# Altium schematic symbol library Flex PCB.SCHLIB: 32 symbols (part 1 of 2)
Pins are listed as number, name and electrical type; pins without a type are passive.

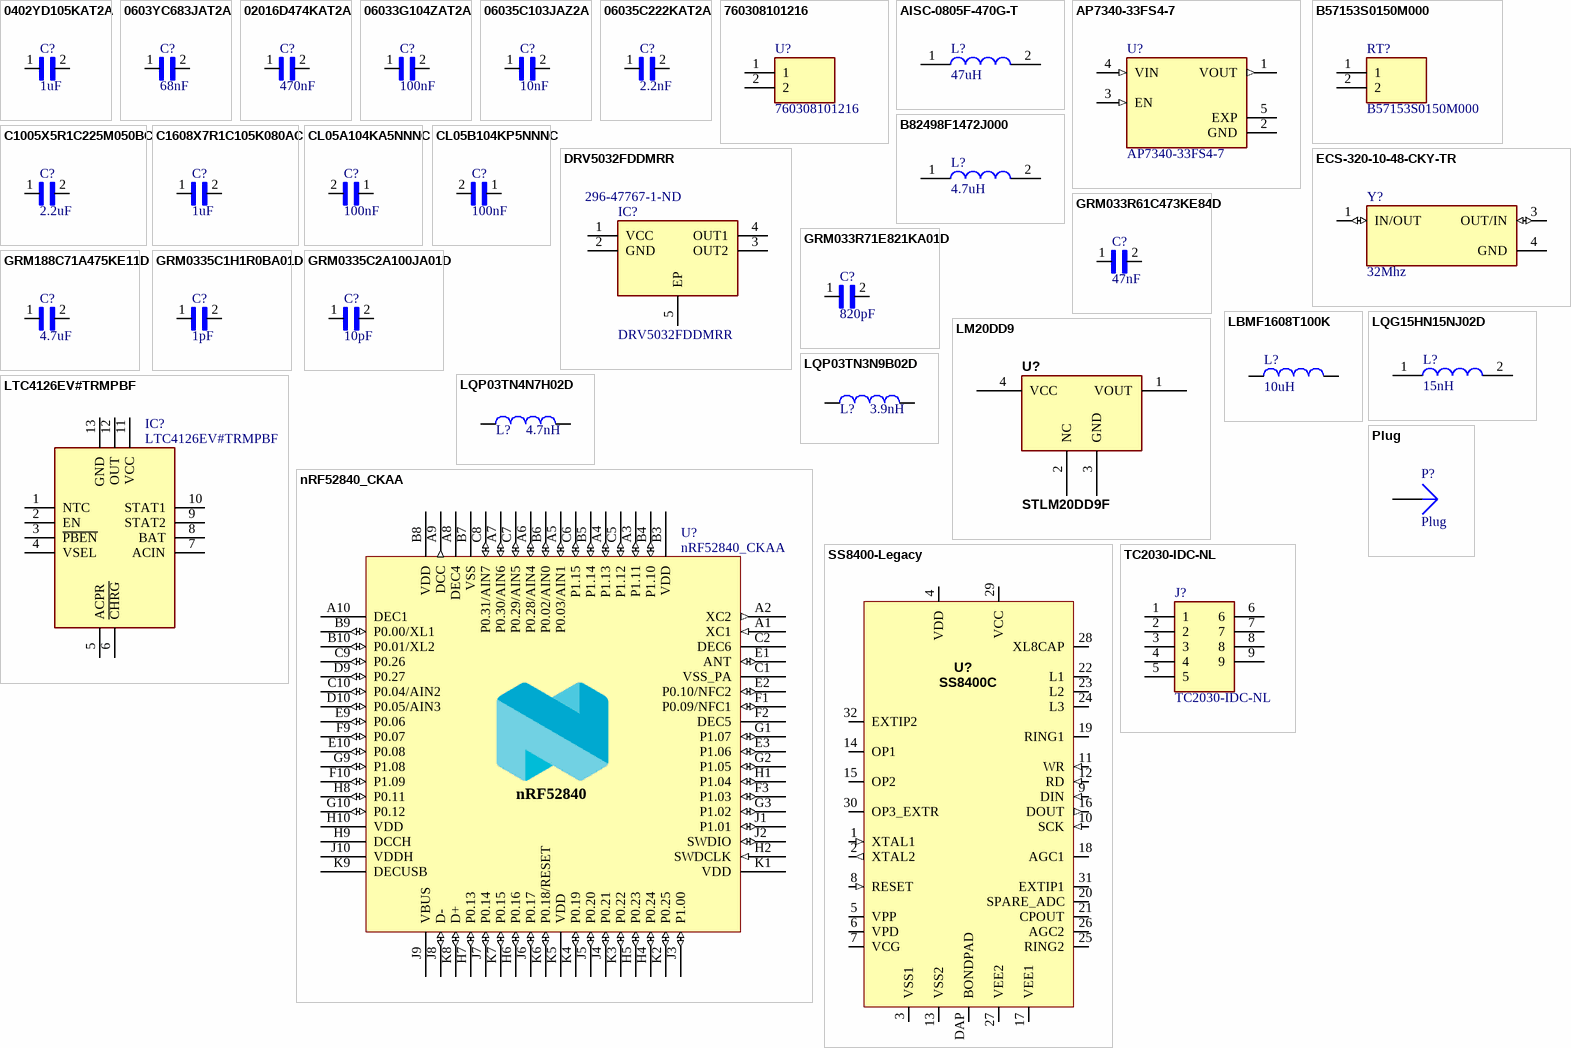
[diagram p0: symbols 0402YD105KAT2A to TC2030-IDC-NL]

## 0402YD105KAT2A
designator C?, comment 1uF
0402 1 uF 16 V ±10 % Tolerance X5R Surface Mount Multilayer Ceramic Capacitor; Manufacturer: Kyocera AVX; Manufacturer Part Number: 0402YD105KAT2A; Tolerance: 10%; Voltage Rating: 16V; Supplier 1: Digi-Key; RoHS: Yes; Category: Ceramic Capacitors; Stock 1: 27570; Pricing 1: 1=0.39000, 10=0.26500, 50=0.17660, 100=0.15010, 500=0.10598, 1000=0.09274, 2500=0.08832, 5000=0.08170 (USD); Mount: Surface Mount; Case/Package: 0402; Number of Pins: 2; Case Code (Metric): 1005; Case Code (Imperial): 0402; Weight: 2.3E-05oz; Contact Plating: Tin; Min Operating Temperature: -55°C; Max Operating Temperature: 85°C; Capacitance: 1uF; Packaging: Tape and Reel; Package Quantity: 10000; Voltage Rating (DC): 16V; Dielectric: X5R; Termination: SMD/SMT; Construction: Flat; Length: 0.039inch; Width: 0.02inch; Thickness: 0.022inch; Depth: 0.5mm; REACH SVHC: No SVHC; Lead Free: Lead Free; RoHS Compliant: Yes; ComponentLink1URL: https://datasheet.ciiva.com/1126/1598274-1126025.pdf?src-supplier=Farnell; ComponentLink1Description: https://datasheet.ciiva.com/1126/1598274-1126025.pdf?src-supplier=Farnell; ComponentLink2URL: https://datasheet.ciiva.com/1124/1598274-1124011.pdf?src-supplier=Element14; ComponentLink2Description: https://datasheet.ciiva.com/1124/1598274-1124011.pdf?src-supplier=Element14; ComponentLink3URL: https://datasheet.ciiva.com/6269/cx5r-6269291.pdf?src-supplier=Digi-Key; ComponentLink3Description: https://datasheet.ciiva.com/6269/cx5r-6269291.pdf?src-supplier=Digi-Key
footprint CAPC1005X56N
pins: 1, 2

## 0603YC683JAT2A
designator C?, comment 68nF
0603 68 nF 16 V ±5 % Tolerance X7R Surface Mount Multilayer Ceramic Capacitor; Manufacturer: Kyocera AVX; Manufacturer Part Number: 0603YC683JAT2A; Tolerance: 5%; Voltage Rating (DC): 16V; Supplier 1: Newark; RoHS: Yes; Category: Ceramic Capacitors; Mount: Surface Mount; Case/Package: 0603; Number of Pins: 2; Contact Plating: Tin,Matte; Case Code (Metric): 1608; Case Code (Imperial): 0603; Min Operating Temperature: -55°C; Max Operating Temperature: 125°C; Capacitance: 68nF; Dielectric: X7R; Packaging: Tape and Reel; Package Quantity: 1; Termination: SMD/SMT; Series: -; Voltage Rating: 16V; Construction: Flat; Length: 1.6mm; Width: 0.032inch; Depth: 0.81mm; Thickness: 0.035inch; Radiation Hardening: No; Lead Free: Lead Free; REACH SVHC: Unknown; RoHS Compliant: Yes; ComponentLink1URL: https://datasheet.ciiva.com/11577/cx7r-11577158.pdf?src-supplier=Avnet; ComponentLink1Description: https://datasheet.ciiva.com/11577/cx7r-11577158.pdf?src-supplier=Avnet; ComponentLink2URL: https://datasheet.ciiva.com/16507/cx7r-16507206.pdf?src-supplier=Future+Electronics; ComponentLink2Description: https://datasheet.ciiva.com/16507/cx7r-16507206.pdf?src-supplier=Future+Electronics; ComponentLink3URL: https://datasheet.ciiva.com/152/cx7r-152731.pdf?src-supplier=Digi-Key; ComponentLink3Description: https://datasheet.ciiva.com/152/cx7r-152731.pdf?src-supplier=Digi-Key; ComponentLink4URL: https://datasheet.ciiva.com/14912/cx7r-14912559.pdf?src-supplier=Digi-Key; ComponentLink4Description: https://datasheet.ciiva.com/14912/cx7r-14912559.pdf?src-supplier=Digi-Key
footprint CAPC1608X90N
pins: 1, 2

## 02016D474KAT2A
designator C?, comment 470nF
Cap Ceramic 0.47uF 6.3V X5R 10% SMD 0201 85C Paper T/R; Manufacturer: Kyocera AVX; Manufacturer Part Number: 02016D474KAT2A; Supplier 1: Digi-Key; RoHS: Yes; Category: Ceramic Capacitors; Stock 1: 336619; Pricing 1: 1=0.10000, 10=0.05900, 50=0.03240, 100=0.02650, 500=0.01892, 1000=0.01486, 2500=0.01351, 5000=0.01243 (USD); Case/Package: 0201; Min Operating Temperature: -55°C; Max Operating Temperature: 85°C; Capacitance: 470nF; Package Quantity: 15000; Tolerance: 10%; Packaging: Tape and Reel; Voltage Rating (DC): 6.3V; Dielectric: X5R; Length: 0.6mm; Depth: 0.3mm; RoHS Compliant: Yes; ComponentLink1URL: https://datasheet.ciiva.com/13272/cx5r-33896-13272439.pdf?src-supplier=Mouser; ComponentLink1Description: https://datasheet.ciiva.com/13272/cx5r-33896-13272439.pdf?src-supplier=Mouser
footprint CAPC0603X33N
pins: 1, 2

## 06033G104ZAT2A
designator C?, comment 100nF
0603 100 nF 25 V -20 / +80 % Tolerance Y5V SMT Multilayer Ceramic Capacitor; Manufacturer: Kyocera AVX; Manufacturer Part Number: 06033G104ZAT2A; Tolerance: 80%; Voltage Rating (DC): 25V; Insulation Resistance: 100GR; Dissipation Factor: 7%; Supplier 1: Digi-Key; RoHS: Yes; Category: Ceramic Capacitors; Stock 1: 1016354; Pricing 1: 1=0.10000, 10=0.03000, 50=0.01660, 100=0.01350, 500=0.00966, 1000=0.00759 (USD); Mount: Surface Mount,PCB; Case/Package: 0603; Number of Pins: 2; Case Code (Imperial): 0603; Case Code (Metric): 1608; Contact Plating: Tin,Matte; Case Code: 0603; Min Operating Temperature: -30°C; Max Operating Temperature: 85°C; Capacitance: 100nF; Dielectric: Y5V; Packaging: Tape and Reel; Package Quantity: 1; Termination: SMD/SMT; Voltage Rating: 25V; Voltage: 25V; Series: -; Construction: Flat; Length: 1.6mm; Width: 0.032inch; Height: 0.9mm; Thickness: 0.035inch; Depth: 0.81mm; Radiation Hardening: No; REACH SVHC: No SVHC; Lead Free: Lead Free; RoHS Compliant: Yes; ComponentLink1URL: https://datasheet.ciiva.com/1124/318409-1124608.pdf?src-supplier=Element14; ComponentLink1Description: https://datasheet.ciiva.com/1124/318409-1124608.pdf?src-supplier=Element14; ComponentLink2URL: https://datasheet.ciiva.com/11786/0900766b802d4699-11786267.pdf?src-supplier=RSComponents; ComponentLink2Description: https://datasheet.ciiva.com/11786/0900766b802d4699-11786267.pdf?src-supplier=RSComponents; ComponentLink3URL: https://datasheet.ciiva.com/2987/cy5v-2987766.pdf?src-supplier=Avnet; ComponentLink3Description: https://datasheet.ciiva.com/2987/cy5v-2987766.pdf?src-supplier=Avnet; ComponentLink4URL: https://datasheet.ciiva.com/11464/cy5v-11464567.pdf?src-supplier=Avnet; ComponentLink4Description: https://datasheet.ciiva.com/11464/cy5v-11464567.pdf?src-supplier=Avnet; ComponentLink5URL: https://datasheet.ciiva.com/16484/cy5v-16484423.pdf?src-supplier=Avnet+Asia; ComponentLink5Description: https://datasheet.ciiva.com/16484/cy5v-16484423.pdf?src-supplier=Avnet+Asia; ComponentLink6URL: https://datasheet.ciiva.com/14590/70001073-14590664.pdf?src-supplier=Allied+Electronics; ComponentLink6Description: https://datasheet.ciiva.com/14590/70001073-14590664.pdf?src-supplier=Allied+Electronics; ComponentLink7URL: https://datasheet.ciiva.com/203/cy5v-203689.pdf?src-supplier=Digi-Key; ComponentLink7Description: https://datasheet.ciiva.com/203/cy5v-203689.pdf?src-supplier=Digi-Key; ComponentLink8URL: https://datasheet.ciiva.com/203/cy5v-203690.pdf?src-supplier=Digi-Key; ComponentLink8Description: https://datasheet.ciiva.com/203/cy5v-203690.pdf?src-supplier=Digi-Key; ComponentLink9URL: https://datasheet.ciiva.com/203/cy5v-203691.pdf?src-supplier=Digi-Key; ComponentLink9Description: https://datasheet.ciiva.com/203/cy5v-203691.pdf?src-supplier=Digi-Key; ComponentLink10URL: https://datasheet.ciiva.com/28613/578190-28613276.pdf?src-supplier=Element14; ComponentLink10Description: https://datasheet.ciiva.com/28613/578190-28613276.pdf?src-supplier=Element14; ComponentLink11URL: https://datasheet.ciiva.com/1124/578190-1124654.pdf?src-supplier=Element14; ComponentLink11Description: https://datasheet.ciiva.com/1124/578190-1124654.pdf?src-supplier=Element14; ComponentLink12URL: https://datasheet.ciiva.com/1124/578190-1124655.pdf?src-supplier=Element14; ComponentLink12Description: https://datasheet.ciiva.com/1124/578190-1124655.pdf?src-supplier=Element14
footprint CAPC1608X90N
pins: 1, 2

## 06035C103JAZ2A
designator C?, comment 10nF
0603 10 nF 50V ±5 % Tolerance X7R Surface Mount Multilayer Ceramic Capacitor; Manufacturer: Kyocera AVX; Manufacturer Part Number: 06035C103JAZ2A; Tolerance: 5%; Dissipation Factor: 2.5%; Supplier 1: Digi-Key; RoHS: Yes; Category: Ceramic Capacitors; Stock 1: 97; Pricing 1: 1=0.14000, 10=0.10200, 50=0.05820, 100=0.04820, 500=0.03378, 1000=0.02797 (USD); Mount: Surface Mount; Case/Package: 0603; Number of Pins: 2; Case Code (Imperial): 0603; Case Code (Metric): 1608; Min Operating Temperature: -55°C; Max Operating Temperature: 125°C; Capacitance: 10nF; Dielectric: X7R; Packaging: Tape and Reel; Voltage Rating (DC): 50V; Package Quantity: 1; Voltage Rating: 50V; Termination: SMD/SMT; Features: Soft Termination; Series: FLEXITERM®; Construction: Flat; Length: 1.6mm; Width: 0.81mm; Height: 0.035mm; Depth: 0.81mm; Thickness: 0.035inch; Radiation Hardening: No; REACH SVHC: No SVHC; Lead Free: Lead Free; RoHS Compliant: Yes; ComponentLink1URL: https://datasheet.ciiva.com/17488/flexiterm-17488982.pdf?src-supplier=Avnet+Europe; ComponentLink1Description: https://datasheet.ciiva.com/17488/flexiterm-17488982.pdf?src-supplier=Avnet+Europe; ComponentLink2URL: https://datasheet.ciiva.com/162/flexiterm-162263.pdf?src-supplier=Digi-Key; ComponentLink2Description: https://datasheet.ciiva.com/162/flexiterm-162263.pdf?src-supplier=Digi-Key; ComponentLink3URL: https://datasheet.ciiva.com/162/flexiterm-162264.pdf?src-supplier=Digi-Key; ComponentLink3Description: https://datasheet.ciiva.com/162/flexiterm-162264.pdf?src-supplier=Digi-Key; ComponentLink4URL: https://datasheet.ciiva.com/162/flexiterm-162265.pdf?src-supplier=Digi-Key; ComponentLink4Description: https://datasheet.ciiva.com/162/flexiterm-162265.pdf?src-supplier=Digi-Key; ComponentLink5URL: https://datasheet.ciiva.com/1124/1679506-1124844.pdf?src-supplier=Element14; ComponentLink5Description: https://datasheet.ciiva.com/1124/1679506-1124844.pdf?src-supplier=Element14; ComponentLink6URL: https://datasheet.ciiva.com/1124/1679506-1124845.pdf?src-supplier=Element14; ComponentLink6Description: https://datasheet.ciiva.com/1124/1679506-1124845.pdf?src-supplier=Element14; ComponentLink7URL: https://datasheet.ciiva.com/11561/flexiterm-11561503.pdf?src-supplier=Avnet; ComponentLink7Description: https://datasheet.ciiva.com/11561/flexiterm-11561503.pdf?src-supplier=Avnet; ComponentLink8URL: https://datasheet.ciiva.com/16327/cx7r-16327071.pdf?src-supplier=Future+Electronics; ComponentLink8Description: https://datasheet.ciiva.com/16327/cx7r-16327071.pdf?src-supplier=Future+Electronics
footprint CAPC1608X90N
pins: 1, 2

## 06035C222KAT2A
designator C?, comment 2.2nF
0603 2.2 nF 50V ±10 % Tolerance X7R Surface Mount Multilayer Ceramic Capacitor; Manufacturer: Kyocera AVX; Manufacturer Part Number: 06035C222KAT2A; Tolerance: 10%; Voltage: 25V; Dissipation Factor: 2.5%; Supplier 1: Digi-Key; RoHS: Yes; Category: Ceramic Capacitors; Stock 1: 363118; Pricing 1: 1=0.10000, 10=0.06400, 50=0.03500, 100=0.02850, 500=0.02036, 1000=0.01600 (USD); Mount: Surface Mount; Case/Package: 0603; Number of Pins: 2; Case Code (Metric): 1608; Case Code (Imperial): 0603; Contact Plating: Tin,Matte; Dielectric Material: Ceramic; Min Operating Temperature: -55°C; Max Operating Temperature: 125°C; Capacitance: 2.2nF; Dielectric: X7R; Packaging: Tape and Reel; Voltage Rating (DC): 50V; Voltage Rating: 50V; Package Quantity: 1; Termination: SMD/SMT; Series: -; Construction: Flat; Length: 1.6mm; Width: 0.032inch; Height: 0.9mm; Depth: 0.81mm; Thickness: 0.035inch; Radiation Hardening: No; REACH SVHC: No SVHC; Lead Free: Lead Free; RoHS Compliant: Yes; ComponentLink1URL: https://datasheet.ciiva.com/11788/0900766b802d4698-11788065.pdf?src-supplier=RSComponents; ComponentLink1Description: https://datasheet.ciiva.com/11788/0900766b802d4698-11788065.pdf?src-supplier=RSComponents; ComponentLink2URL: https://datasheet.ciiva.com/2987/cx7r-2987841.pdf?src-supplier=Avnet; ComponentLink2Description: https://datasheet.ciiva.com/2987/cx7r-2987841.pdf?src-supplier=Avnet; ComponentLink3URL: https://datasheet.ciiva.com/28546/cx7r-28546597.pdf?src-supplier=Element14; ComponentLink3Description: https://datasheet.ciiva.com/28546/cx7r-28546597.pdf?src-supplier=Element14; ComponentLink4URL: https://datasheet.ciiva.com/160/cx7r-160968.pdf?src-supplier=Digi-Key; ComponentLink4Description: https://datasheet.ciiva.com/160/cx7r-160968.pdf?src-supplier=Digi-Key; ComponentLink5URL: https://datasheet.ciiva.com/160/cx7r-160969.pdf?src-supplier=Digi-Key; ComponentLink5Description: https://datasheet.ciiva.com/160/cx7r-160969.pdf?src-supplier=Digi-Key; ComponentLink6URL: https://datasheet.ciiva.com/160/cx7r-160970.pdf?src-supplier=Digi-Key; ComponentLink6Description: https://datasheet.ciiva.com/160/cx7r-160970.pdf?src-supplier=Digi-Key; ComponentLink7URL: https://datasheet.ciiva.com/1457/1679506-1457930.pdf?src-supplier=Element14; ComponentLink7Description: https://datasheet.ciiva.com/1457/1679506-1457930.pdf?src-supplier=Element14; ComponentLink8URL: https://datasheet.ciiva.com/1457/1679506-1457931.pdf?src-supplier=Element14; ComponentLink8Description: https://datasheet.ciiva.com/1457/1679506-1457931.pdf?src-supplier=Element14; ComponentLink9URL: https://datasheet.ciiva.com/5415/cx7r-218113-5415163.pdf?src-supplier=Mouser; ComponentLink9Description: https://datasheet.ciiva.com/5415/cx7r-218113-5415163.pdf?src-supplier=Mouser
footprint CAPC1608X90N
pins: 1, 2

## 760308101216
designator U?
Radial Wireless Charging Receiver Coil; Ferrite Core; 6mm; 500mA; 440mO; 10 Q; Manufacturer: Wurth Electronics; Inductance: 7.2uH; Saturation Current: 1A; DC Resistance (DCR): 440mR; Self Resonant Frequency: 32MHz; Tolerance: 10%; Supplier 1: Digi-Key; Manufacturer Part Number: 760308101216; RoHS: Yes; Stock 1: 445; Pricing 1: 1=8.54000, 10=8.14000, 60=7.51400, 120=6.83100 (USD); Min Operating Temperature: -20°C; Max Operating Temperature: 105°C; Logic Function: Receiver; Current Rating: 500mA; Inductance Tolerance: 10%; Height: 0.08inch; REACH SVHC: Unknown; RoHS Compliant: Yes; ComponentLink1URL: http://www.farnell.com/datasheets/2039991.pdf?src-supplier=Farnell; ComponentLink1Description: http://www.farnell.com/datasheets/2039991.pdf?src-supplier=Farnell; ComponentLink2URL: https://katalog.we-online.de/pbs/datasheet/760308101216.pdf?src-supplier=Digi-Key; ComponentLink2Description: https://katalog.we-online.de/pbs/datasheet/760308101216.pdf?src-supplier=Digi-Key; ComponentLink3URL: http://www.farnell.com/datasheets/2039991.pdf?src-supplier=Element14; ComponentLink3Description: http://www.farnell.com/datasheets/2039991.pdf?src-supplier=Element14
footprint 760308101216
pins: 1, 2

## AISC-0805F-470G-T
designator L?, comment 47uH
Inductor RF Wirewound 47uH 2% 2.5MHz 10Q-Factor Ferrite 0.055A 13.8Ohm DCR 0805 T/R; Manufacturer: Abracon; Manufacturer Part Number: AISC-0805F-470G-T; Self Resonant Frequency: 14MHz; DC Resistance (DCR): 13.8R; Current Rating: 55mA; Shielding: Unshielded; Max DC Current: 1A; Q Factor: 10; Supplier 1: Digi-Key; RoHS: Yes; Category: Fixed Inductors; Stock 1: 1780; Pricing 1: 1=0.29000, 10=0.25700, 25=0.22520, 50=0.19300, 100=0.17690, 250=0.16080, 500=0.15116, 1000=0.11578 (USD); Mount: Surface Mount; Case/Package: 0805; Case Code (Metric): 2012; Case Code (Imperial): 0805; Core Material: Ferrite; Min Operating Temperature: -40°C; Max Operating Temperature: 125°C; Packaging: Tape and Reel; Inductance: 47uH; Tolerance: 2%; Test Frequency: 2.5MHz; Termination: SMD/SMT; Series: AISC-0805F; Package Quantity: 2000; Length: 0.09inch; Width: 0.068inch; Height: 0.061inch; RoHS Compliant: Yes; ComponentLink1URL: https://datasheet.ciiva.com/1079/aisc-0805f-1079476.pdf?src-supplier=Digi-Key; ComponentLink1Description: https://datasheet.ciiva.com/1079/aisc-0805f-1079476.pdf?src-supplier=Digi-Key; ComponentLink2URL: https://datasheet.ciiva.com/1079/aisc-0805f-1079477.pdf?src-supplier=Digi-Key; ComponentLink2Description: https://datasheet.ciiva.com/1079/aisc-0805f-1079477.pdf?src-supplier=Digi-Key
footprint AISC0805F470GT
pins: 1, 2

## AP7340-33FS4-7
designator U?
AP7340 Series 3.3 V Fixed Output 150 mA SMT LDO Regulator - DFN1010-4; Manufacturer: Diodes; Output Current: 150mA; Number of Outputs: 1; Min Input Voltage: 1.7V; Max Input Voltage: 5.25V; Output Voltage: 3.3V; Max Power Dissipation: 400mW; Dropout Voltage: 210mV; Quiescent Current: 50uA; Polarity: Positive; Accuracy: 1%; Supplier 1: Digi-Key; Manufacturer Part Number: AP7340-33FS4-7; RoHS: Yes; Category: Voltage Regulators - Linear; Stock 1: 94687; Pricing 1: 1=0.39000, 10=0.31400, 25=0.28720, 100=0.21370, 250=0.19368, 500=0.16028, 1000=0.12020, 2500=0.11019 (USD); Mount: Surface Mount; Case/Package: DFN; Number of Pins: 4; Contact Plating: Gold; Min Operating Temperature: -40°C; Max Operating Temperature: 85°C; Packaging: Tape and Reel; Max Output Current: 150mA; Package Quantity: 5000; Number of Regulators: 1; Power Rating: 400mW; Output Type: Fixed; Length: 1.05mm; Width: 1.05mm; Height: 0.35mm; Lead Free: Lead Free; RoHS Compliant: Yes; ComponentLink1URL: https://datasheet.ciiva.com/29568/ap7340-29568831.pdf?src-supplier=Digi-Key; ComponentLink1Description: https://datasheet.ciiva.com/29568/ap7340-29568831.pdf?src-supplier=Digi-Key; ComponentLink2URL: https://datasheet.ciiva.com/30016/ap7340-30016698.pdf?src-supplier=Avnet; ComponentLink2Description: https://datasheet.ciiva.com/30016/ap7340-30016698.pdf?src-supplier=Avnet
footprint VREG_AP7340-33FS4-7
pins: 1 VOUT (out), 2 GND (power), 3 EN (in), 4 VIN (in), 5 EXP

## B57153S0150M000
designator RT?  (graphical)
Inrush current limiters include PTC and NTC Thermistors.; Manufacturer: TDK EPCOS; Current Rating: 1.8A; Tolerance: 20%; Operating Supply Voltage: 265V; Lead Length: 25mm; Approvals: UL; Supplier 1: Digi-Key; Manufacturer Part Number: B57153S0150M000; RoHS: Yes; Category: Thermistors; Stock 1: 1322; Pricing 1: 1=0.57000, 5=0.55000, 10=0.53200, 50=0.44780, 100=0.37180, 250=0.33800, 500=0.28730, 1000=0.25350, 5000=0.22815 (USD); Case/Package: Radial; Number of Pins: 2; Min Operating Temperature: -55°C; Max Operating Temperature: 170°C; Packaging: Bulk; Diameter: 8.5mm; Depth: 6mm; Thickness: 6mm; Radiation Hardening: No; RoHS Compliant: Yes; REACH SVHC: No SVHC; Lead Free: Lead Free; ComponentLink1URL: https://datasheet.ciiva.com/15097/getdatasheetpartid-382123-15097837.pdf?src-supplier=Verical; ComponentLink1Description: https://datasheet.ciiva.com/15097/getdatasheetpartid-382123-15097837.pdf?src-supplier=Verical; ComponentLink2URL: https://datasheet.ciiva.com/29386/419724-da-01-en-ntc-sensor-b57153s0150m000-29386961.pdf?src-supplier=Conrad; ComponentLink2Description: https://datasheet.ciiva.com/29386/419724-da-01-en-ntc-sensor-b57153s0150m000-29386961.pdf?src-supplier=Conrad
pins: 1, 2

## B82498F1472J000
designator L?, comment 4.7uH
FIXED IND 4.7UH 90MA 3.8 OHM SMD; Manufacturer: TDK EPCOS; Manufacturer Part Number: B82498F1472J000; Core Material: Ferrite,Ceramic; Inductance Tolerance: 5%; Q Factor: 20; Self Resonant Frequency: 210MHz; DC Resistance (DCR): 3.8R; Test Frequency: 7.96MHz; Inductor Type: HIGH FREQUENCY; Supplier 1: RSComponents; RoHS: Yes; Category: Fixed Inductors; Stock 1: 1; Pricing 1: 10=0.93100, 50=0.79000, 100=0.69900, 250=0.60400, 500=0.55800 (USD); Mount: Surface Mount; Case/Package: 0805; Number of Pins: 2; Case Code (Metric): 2012; Case Code (Imperial): 0805; Contact Plating: Silver; Tolerance: 5%; Packaging: Tape and Reel; Current Rating: 90mA; Inductance: 4.7uH; Max DC Current: 90mA; DC Current: 90mA; Series: SIMID; Series Resistance: 3.8R; Length: 2.3mm; Depth: 1.7mm; REACH SVHC: No SVHC; Military Standard: Not; RoHS Compliant: Yes; ComponentLink1URL: https://datasheet.ciiva.com/6007/78409-6007765.pdf?src-supplier=Farnell; ComponentLink1Description: https://datasheet.ciiva.com/6007/78409-6007765.pdf?src-supplier=Farnell; ComponentLink2URL: https://datasheet.ciiva.com/14124/pjb82498f-data-en-14124805.pdf?src-supplier=Distrelec; ComponentLink2Description: https://datasheet.ciiva.com/14124/pjb82498f-data-en-14124805.pdf?src-supplier=Distrelec
footprint B82498F
pins: 1, 2

## C1005X5R1C225M050BC
designator C?, comment 2.2uF
Cap Ceramic 2.2uF 16V X5R 20% SMD 0402 85C Paper T/R; Manufacturer: TDK; Manufacturer Part Number: C1005X5R1C225M050BC; Supplier 1: Digi-Key; RoHS: Yes; Category: Ceramic Capacitors; Stock 1: 5540; Pricing 1: 1=0.35000, 10=0.24200, 50=0.16100, 100=0.13680, 500=0.09660, 1000=0.08452, 2500=0.08050, 5000=0.07446 (USD); Mount: Surface Mount; Case/Package: 0402; Case Code (Metric): 1005; Case Code (Imperial): 0402; Weight: 2.3E-05oz; Dielectric Material: Ceramic; Min Operating Temperature: -55°C; Max Operating Temperature: 85°C; Tolerance: 20%; Packaging: Tape and Reel; Capacitance: 2.2uF; Voltage Rating: 16V; Termination: SMD/SMT; Package Quantity: 1; Voltage Rating (DC): 16V; Dielectric: X5R; Resistor Type: Ceramic; Series: C; Length: 1mm; Width: 0.02inch; Height: 0.5mm; Thickness: 0.022inch; Depth: 0.5mm; REACH SVHC: No SVHC; Lead Free: Lead Free; RoHS Compliant: Yes; ComponentLink1URL: https://datasheet.ciiva.com/24217/c1005x5r1c225m050bc-264319-24217866.pdf?src-supplier=Mouser; ComponentLink1Description: https://datasheet.ciiva.com/24217/c1005x5r1c225m050bc-264319-24217866.pdf?src-supplier=Mouser; ComponentLink2URL: https://datasheet.ciiva.com/6290/tdkmlcccaprange-6290133.pdf?src-supplier=Digi-Key; ComponentLink2Description: https://datasheet.ciiva.com/6290/tdkmlcccaprange-6290133.pdf?src-supplier=Digi-Key; ComponentLink3URL: https://datasheet.ciiva.com/6290/tdkmlcccaprange-6290135.pdf?src-supplier=Digi-Key; ComponentLink3Description: https://datasheet.ciiva.com/6290/tdkmlcccaprange-6290135.pdf?src-supplier=Digi-Key
footprint CAPC1005X55N
pins: 1, 2

## C1608X7R1C105K080AC
designator C?, comment 1uF
TDK - C1608X7R1C105K080AC - SMD Multilayer Ceramic Capacitor, 1 µF, 16 V, 0603 [1608 Metric], ± 10%, X7R, C Series TDK; Voltage Rating: 16V; Supplier 1: Digi-Key; Manufacturer: TDK; Manufacturer Part Number: C1608X7R1C105K080AC; RoHS: Yes; Category: Ceramic Capacitors; Stock 1: 2663219; Pricing 1: 1=0.13000, 10=0.09600, 50=0.05440, 100=0.04500, 500=0.03156, 1000=0.02613 (USD); Mount: Surface Mount; Case/Package: 0603; Case Code (Metric): 1608; Case Code (Imperial): 0603; Weight: 7.1E-05oz; Dielectric Material: Ceramic; Min Operating Temperature: -55°C; Max Operating Temperature: 125°C; Capacitance: 1uF; Tolerance: 10%; Dielectric: X7R; Packaging: Tape and Reel; Package Quantity: 1; Voltage Rating (DC): 16V; Termination: SMD/SMT; Resistor Type: Ceramic; Voltage: 16V; Series: C; Construction: Flat; Length: 1.6mm; Width: 0.031inch; Height: 0.8mm; Thickness: 0.037inch; Depth: 0.8mm; Radiation Hardening: No; REACH SVHC: No SVHC; Lead Free: Lead Free; RoHS Compliant: Yes; ComponentLink1URL: https://datasheet.ciiva.com/11788/0900766b80c1bb00-11788075.pdf?src-supplier=RSComponents; ComponentLink1Description: https://datasheet.ciiva.com/11788/0900766b80c1bb00-11788075.pdf?src-supplier=RSComponents; ComponentLink2URL: https://datasheet.ciiva.com/22648/1796654-22648704.pdf?src-supplier=Element14; ComponentLink2Description: https://datasheet.ciiva.com/22648/1796654-22648704.pdf?src-supplier=Element14; ComponentLink3URL: https://datasheet.ciiva.com/26285/3025c1608x7r1c105k080ac-26285242.pdf?src-supplier=Onlinecomponents.com; ComponentLink3Description: https://datasheet.ciiva.com/26285/3025c1608x7r1c105k080ac-26285242.pdf?src-supplier=Onlinecomponents.com; ComponentLink4URL: https://datasheet.ciiva.com/15192/getdatasheetpartid-715881-15192029.pdf?src-supplier=Verical; ComponentLink4Description: https://datasheet.ciiva.com/15192/getdatasheetpartid-715881-15192029.pdf?src-supplier=Verical; ComponentLink5URL: https://datasheet.ciiva.com/17487/e412-c-17487343.pdf?src-supplier=Avnet+Europe; ComponentLink5Description: https://datasheet.ciiva.com/17487/e412-c-17487343.pdf?src-supplier=Avnet+Europe; ComponentLink6URL: https://datasheet.ciiva.com/22694/1796654-22694127.pdf?src-supplier=Element14; ComponentLink6Description: https://datasheet.ciiva.com/22694/1796654-22694127.pdf?src-supplier=Element14; ComponentLink7URL: https://datasheet.ciiva.com/6250/tdkmlcccaprange-6250871.pdf?src-supplier=Digi-Key; ComponentLink7Description: https://datasheet.ciiva.com/6250/tdkmlcccaprange-6250871.pdf?src-supplier=Digi-Key; ComponentLink8URL: https://datasheet.ciiva.com/16199/e412-c-16199815.pdf?src-supplier=Future+Electronics; ComponentLink8Description: https://datasheet.ciiva.com/16199/e412-c-16199815.pdf?src-supplier=Future+Electronics; ComponentLink9URL: https://datasheet.ciiva.com/6156/1571323-6156168.pdf?src-supplier=Farnell; ComponentLink9Description: https://datasheet.ciiva.com/6156/1571323-6156168.pdf?src-supplier=Farnell; ComponentLink10URL: https://datasheet.ciiva.com/48671/e412-c-48671305.pdf?src-supplier=Avnet; ComponentLink10Description: https://datasheet.ciiva.com/48671/e412-c-48671305.pdf?src-supplier=Avnet; ComponentLink11URL: https://datasheet.ciiva.com/22749/1744655-22749595.pdf?src-supplier=Element14; ComponentLink11Description: https://datasheet.ciiva.com/22749/1744655-22749595.pdf?src-supplier=Element14
footprint CAPC1608X90N
pins: 1, 2

## CL05A104KA5NNNC
designator C?, comment 100nF
Cap Ceramic 0.1uF 25V X5R 10% Pad SMD 0402 85¡ãC T/R / Multi Layer Ceramic Capacitor (MLCC); Manufacturer: Samsung; Manufacturer Part Number: CL05A104KA5NNNC; Supplier 1: Digi-Key; RoHS: Yes; Category: Ceramic Capacitors; Stock 1: 6603507; Pricing 1: 1=0.10000, 10=0.01100, 50=0.00620, 100=0.00510, 500=0.00362, 1000=0.00285, 2500=0.00259, 5000=0.00238 (USD); Mount: Surface Mount; Case/Package: 0402; Case Code (Imperial): 0402; Case Code (Metric): 1005; Min Operating Temperature: -55°C; Max Operating Temperature: 85°C; Capacitance: 100nF; Tolerance: 10%; Dielectric: X5R; Packaging: Tape and Reel; Package Quantity: 1; Voltage Rating: 25V; Voltage: 25V; Voltage Rating (DC): 25V; Length: 1mm; Width: 0.02inch; Height: 0.5mm; Thickness: 0.022inch; Depth: 0.5mm; Radiation Hardening: No; Lead Free: Lead Free; ComponentLink1URL: https://datasheet.ciiva.com/25802/cl05a104ka5nnnc-25802704.pdf?src-supplier=Digi-Key; ComponentLink1Description: https://datasheet.ciiva.com/25802/cl05a104ka5nnnc-25802704.pdf?src-supplier=Digi-Key; ComponentLink2URL: https://datasheet.ciiva.com/16437/cl05a104ka5nnnc-16437369.pdf?src-supplier=Future+Electronics; ComponentLink2Description: https://datasheet.ciiva.com/16437/cl05a104ka5nnnc-16437369.pdf?src-supplier=Future+Electronics; ComponentLink3URL: https://datasheet.ciiva.com/26838/getdatasheetpartid-357412-26838142.pdf?src-supplier=Verical; ComponentLink3Description: https://datasheet.ciiva.com/26838/getdatasheetpartid-357412-26838142.pdf?src-supplier=Verical; ComponentLink4URL: https://datasheet.ciiva.com/26309/mlcc-catalogdownload2013-eng-26309014.pdf?src-supplier=Distrelec; ComponentLink4Description: https://datasheet.ciiva.com/26309/mlcc-catalogdownload2013-eng-26309014.pdf?src-supplier=Distrelec
footprint CAPC1005X55N
pins: 1, 2

## CL05B104KP5NNNC
designator C?, comment 100nF
Cap Ceramic 0.1uF 10V X7R 10% Pad SMD 0402 125C T/R; Manufacturer: Samsung; Manufacturer Part Number: CL05B104KP5NNNC; Supplier 1: Digi-Key; RoHS: Yes; Category: Ceramic Capacitors; Stock 1: 6904136; Pricing 1: 1=0.10000, 10=0.02700, 50=0.01460, 100=0.01200, 500=0.00858, 1000=0.00674, 2500=0.00612, 5000=0.00563 (USD); Mount: Surface Mount; Case/Package: 0402; Case Code (Metric): 1005; Case Code (Imperial): 0402; Contact Plating: Tin; Min Operating Temperature: -55°C; Max Operating Temperature: 125°C; Capacitance: 100nF; Package Quantity: 1; Packaging: Tape and Reel; Tolerance: 10%; Voltage Rating: 10V; Dielectric: X7R; Series: CL; Construction: Flat; Length: 1mm; Width: 0.02inch; Height: 0.5mm; Thickness: 0.022inch; Depth: 0.5mm; Radiation Hardening: No; RoHS Compliant: Yes; ComponentLink1URL: https://datasheet.ciiva.com/15165/getdatasheetpartid-37100-15165107.pdf?src-supplier=Verical; ComponentLink1Description: https://datasheet.ciiva.com/15165/getdatasheetpartid-37100-15165107.pdf?src-supplier=Verical; ComponentLink2URL: https://datasheet.ciiva.com/26787/cl05b104kp5nnnc-26787004.pdf?src-supplier=IIIC; ComponentLink2Description: https://datasheet.ciiva.com/26787/cl05b104kp5nnnc-26787004.pdf?src-supplier=IIIC; ComponentLink3URL: https://datasheet.ciiva.com/16498/cl05b104kq5nnnc-16498491.pdf?src-supplier=Future+Electronics; ComponentLink3Description: https://datasheet.ciiva.com/16498/cl05b104kq5nnnc-16498491.pdf?src-supplier=Future+Electronics
footprint CAPC1005X55N
pins: 1, 2

## DRV5032FDDMRR
designator IC?  Supplier Part Number 1: 296-47767-1-ND
Low power (5 Hz, <1µA), low voltage (up to 5.5V) switch 4-X2SON -40 to 85; Manufacturer: Texas Instruments; Sensing Method: Hall Effect; Max Supply Current: 2.7mA; Max Output Current: 5mA; Supplier 1: Digi-Key; Manufacturer Part Number: DRV5032FDDMRR; RoHS: Yes; Category: Integrated Circuits (ICs); Pricing 1: 1=0.89000, 10=0.78000, 25=0.73280, 100=0.59800, 250=0.55548, 500=0.47276, 1000=0.39025 (USD); Min Operating Temperature: -40°C; Max Operating Temperature: 85°C; Packaging: Cut Tape; RoHS Compliant: Yes; ComponentLink1URL: http://www.ti.com/lit/ds/symlink/drv5032.pdf?src-supplier=Digi-Key; ComponentLink1Description: http://www.ti.com/lit/ds/symlink/drv5032.pdf?src-supplier=Digi-Key; ComponentLink2URL: http://www.ti.com/general/docs/suppproductinfo.tsp?distId=10&amp;gotoUrl=http%3A%2F%2Fwww.ti.com%2Flit%2Fgpn%2Fdrv5032&src-supplier=Digi-Key; ComponentLink2Description: http://www.ti.com/general/docs/suppproductinfo.tsp?distId=10&amp;gotoUrl=http%3A%2F%2Fwww.ti.com%2Flit%2Fgpn%2Fdrv5032&src-supplier=Digi-Key
footprint SON50P140X110X40-5N
pins: 1 VCC, 2 GND, 3 OUT2, 4 OUT1, 5 EP

## ECS-320-10-48-CKY-TR
designator Y?, comment 32Mhz
Crystal 32MHz ±10ppm (Tol) ±10ppm (Stability) 10pF 100Ohm 4-Pin Ultra Mini-CSMD T/R; Manufacturer: ECS International; Manufacturer Part Number: ECS-320-10-48-CKY-TR; Supplier 1: Mouser; RoHS: Yes; Stock 1: 7614; Pricing 1: 1=1.27000, 10=1.20000, 50=1.20000, 100=1.03000, 500=0.99300, 1000=0.83700, 3000=0.82100, 10000=0.82100 (USD); ComponentLink1URL: https://www.ecsxtal.com/store/pdf/ECX-1048.pdf?src-supplier=Digi-Key; ComponentLink1Description: https://www.ecsxtal.com/store/pdf/ECX-1048.pdf?src-supplier=Digi-Key
footprint XTAL_ECS-374-8-48-CKY-TR
pins: 1 IN/OUT (io), 3 OUT/IN (io), 4 GND (power)

## GRM033R61C473KE84D
designator C?, comment 47nF
0201 47 nF 16 V ±10% Tolerance X5R SMT Multilayer Ceramic Capacitor; Manufacturer: Murata; Manufacturer Part Number: GRM033R61C473KE84D; Voltage Rating: 16V; Supplier 1: Digi-Key; RoHS: Yes; Category: Ceramic Capacitors; Stock 1: 123710; Pricing 1: 1=0.10000, 10=0.06800, 50=0.03720, 100=0.03040, 500=0.02174, 1000=0.01708, 2500=0.01552, 5000=0.01428 (USD); Mount: Surface Mount; Case/Package: 0201; Case Code (Metric): 0603; Case Code (Imperial): 0201; Weight: 1.2E-05oz; Min Operating Temperature: -55°C; Max Operating Temperature: 85°C; Package Quantity: 15000; Packaging: Tape and Reel; Capacitance: 47nF; Tolerance: 10%; Voltage Rating (DC): 16V; Dielectric: X5R; Termination: SMD/SMT; Length: 0.024inch; Width: 0.012inch; Height: 0.3mm; Thickness: 0.013inch; Lead Free: Lead Free; RoHS Compliant: Yes; ComponentLink1URL: https://datasheet.ciiva.com/18699/grm033r61c473ke84-01-18699268.pdf?src-supplier=Digi-Key; ComponentLink1Description: https://datasheet.ciiva.com/18699/grm033r61c473ke84-01-18699268.pdf?src-supplier=Digi-Key; ComponentLink2URL: https://datasheet.ciiva.com/18699/partnumbering-e-01-18699269.pdf?src-supplier=Digi-Key; ComponentLink2Description: https://datasheet.ciiva.com/18699/partnumbering-e-01-18699269.pdf?src-supplier=Digi-Key; ComponentLink3URL: https://datasheet.ciiva.com/24221/c02e-24221301.pdf?src-supplier=Mouser; ComponentLink3Description: https://datasheet.ciiva.com/24221/c02e-24221301.pdf?src-supplier=Mouser; ComponentLink4URL: https://datasheet.ciiva.com/18699/partnumbering-e-01-18699270.pdf?src-supplier=Digi-Key; ComponentLink4Description: https://datasheet.ciiva.com/18699/partnumbering-e-01-18699270.pdf?src-supplier=Digi-Key
footprint CAPC0603X33N
pins: 1, 2

## GRM033R71E821KA01D
designator C?, comment 820pF
0201 820 pF 25 V ±10% Tolerance X7R Multilayer Ceramic Capacitor; Manufacturer: Murata; Manufacturer Part Number: GRM033R71E821KA01D; Voltage Rating: 25V; Supplier 1: Digi-Key; RoHS: Yes; Category: Ceramic Capacitors; Stock 1: 127531; Pricing 1: 1=0.10000, 10=0.02700, 50=0.01440, 100=0.01180, 500=0.00846, 1000=0.00664, 2500=0.00604, 5000=0.00555 (USD); Mount: Surface Mount; Case/Package: 0201; Case Code (Imperial): 0201; Case Code (Metric): 0603; Min Operating Temperature: -55°C; Max Operating Temperature: 125°C; Capacitance: 820pF; Tolerance: 10%; Dielectric: X7R; Packaging: Tape and Reel; Package Quantity: 1; Voltage Rating (DC): 25V; Termination: SMD/SMT; Voltage: 25V; Series: GRM; Construction: Flat; Length: 0.6mm; Width: 0.3mm; Height: 0.3mm; Thickness: 0.013inch; Depth: 0.3mm; Radiation Hardening: No; Lead Free: Lead Free; RoHS Compliant: Yes; ComponentLink1URL: https://datasheet.ciiva.com/5414/product-5414169.pdf?src-supplier=Mouser; ComponentLink1Description: https://datasheet.ciiva.com/5414/product-5414169.pdf?src-supplier=Mouser; ComponentLink2URL: https://datasheet.ciiva.com/130/partnumbering-e-01-130155.pdf?src-supplier=Digi-Key; ComponentLink2Description: https://datasheet.ciiva.com/130/partnumbering-e-01-130155.pdf?src-supplier=Digi-Key; ComponentLink3URL: https://datasheet.ciiva.com/11602/product-11602283.pdf?src-supplier=Avnet; ComponentLink3Description: https://datasheet.ciiva.com/11602/product-11602283.pdf?src-supplier=Avnet; ComponentLink4URL: https://datasheet.ciiva.com/130/partnumbering-e-01-130156.pdf?src-supplier=Digi-Key; ComponentLink4Description: https://datasheet.ciiva.com/130/partnumbering-e-01-130156.pdf?src-supplier=Digi-Key; ComponentLink5URL: https://datasheet.ciiva.com/130/partnumbering-e-01-130157.pdf?src-supplier=Digi-Key; ComponentLink5Description: https://datasheet.ciiva.com/130/partnumbering-e-01-130157.pdf?src-supplier=Digi-Key; ComponentLink6URL: https://datasheet.ciiva.com/17453/product-17453309.pdf?src-supplier=Avnet+Europe; ComponentLink6Description: https://datasheet.ciiva.com/17453/product-17453309.pdf?src-supplier=Avnet+Europe
footprint CAPC0603X33N
pins: 1, 2

## GRM188C71A475KE11D
designator C?, comment 4.7uF
0603 4.7 uF 10 V ±10% Tolerance X7S Multilayer Ceramic Capacitor; Manufacturer: Murata; Manufacturer Part Number: GRM188C71A475KE11D; Voltage Rating: 10V; Supplier 1: RSComponents; RoHS: Yes; Category: Ceramic Capacitors; Stock 1: 1; Pricing 1: 50=0.27400 (USD); Mount: Surface Mount; Case/Package: 0603; Case Code (Metric): 1608; Material: Ceramic; Case Code (Imperial): 0603; Weight: 0.000222oz; Min Operating Temperature: -55°C; Max Operating Temperature: 125°C; Tolerance: 10%; Dielectric: X7S; Capacitance: 4.7uF; Packaging: Tape and Reel; Termination: SMD/SMT; Resistor Type: Ceramic; Voltage Rating (DC): 10V; Package Quantity: 4000; Length: 1.6mm; Width: 0.8mm; Height: 0.8mm; Thickness: 0.037inch; RoHS Compliant: Yes; ComponentLink1URL: http://www.mouser.com/ds/2/281/c02e-2905.pdf?src-supplier=Mouser; ComponentLink1Description: http://www.mouser.com/ds/2/281/c02e-2905.pdf?src-supplier=Mouser; ComponentLink2URL: http://search.murata.co.jp/Ceramy/image/img/A01X/G101/ENG/GRM188C71A475KE11-01.pdf?src-supplier=Digi-Key; ComponentLink2Description: http://search.murata.co.jp/Ceramy/image/img/A01X/G101/ENG/GRM188C71A475KE11-01.pdf?src-supplier=Digi-Key
footprint CAPC1608X95N
pins: 1, 2

## GRM0335C1H1R0BA01D
designator C?, comment 1pF
0201 1 pF 50 V ±0.1 pF Tolerance C0G SMT Multilayer Ceramic Capacitor; Manufacturer: Murata; Manufacturer Part Number: GRM0335C1H1R0BA01D; Voltage Rating: 50V; Supplier 1: Digi-Key; RoHS: Yes; Category: Ceramic Capacitors; Stock 1: 1332849; Pricing 1: 1=0.10000, 10=0.02000, 50=0.01100, 100=0.00900, 500=0.00644, 1000=0.00506, 2500=0.00460, 5000=0.00423 (USD); Mount: Surface Mount; Case/Package: 0201; Case Code (Metric): 0603; Case Code (Imperial): 0201; Min Operating Temperature: -55°C; Max Operating Temperature: 125°C; Packaging: Tape and Reel; Package Quantity: 15000; Capacitance: 1pF; Dielectric: C0G; Termination: SMD/SMT; Voltage Rating (DC): 50V; Series: GRM; Length: 0.024inch; Width: 0.012inch; Thickness: 0.013inch; Depth: 0.3mm; Lead Free: Lead Free; RoHS Compliant: Yes; ComponentLink1URL: https://datasheet.ciiva.com/29538/partnumbering-e-01-29538566.pdf?src-supplier=Digi-Key; ComponentLink1Description: https://datasheet.ciiva.com/29538/partnumbering-e-01-29538566.pdf?src-supplier=Digi-Key
footprint CAPC0603X33N
pins: 1, 2

## GRM0335C2A100JA01D
designator C?, comment 10pF
Cap Ceramic 10pF 100V C0G 5% Pad SMD 0201 125C T/R; Manufacturer: Murata; Manufacturer Part Number: GRM0335C2A100JA01D; Supplier 1: Digi-Key; RoHS: Yes; Category: Ceramic Capacitors; Stock 1: 52350; Pricing 1: 1=0.10000, 10=0.03200, 50=0.01720, 100=0.01410, 500=0.01006, 1000=0.00791, 2500=0.00719, 5000=0.00661 (USD); Mount: Surface Mount; Case/Package: 0201; Case Code (Metric): 0603; Case Code (Imperial): 0201; Weight: 1.2E-05oz; Min Operating Temperature: -55°C; Max Operating Temperature: 125°C; Package Quantity: 1; Packaging: Tape and Reel; Capacitance: 10pF; Tolerance: 5%; Voltage Rating: 100V; Voltage Rating (DC): 100V; Dielectric: C0G; Termination: SMD/SMT; Length: 0.024inch; Width: 0.012inch; Height: 0.3mm; Thickness: 0.013inch; RoHS Compliant: Yes; ComponentLink1URL: https://datasheet.ciiva.com/18699/partnumbering-e-01-18699375.pdf?src-supplier=Digi-Key; ComponentLink1Description: https://datasheet.ciiva.com/18699/partnumbering-e-01-18699375.pdf?src-supplier=Digi-Key; ComponentLink2URL: https://datasheet.ciiva.com/18699/partnumbering-e-01-18699374.pdf?src-supplier=Digi-Key; ComponentLink2Description: https://datasheet.ciiva.com/18699/partnumbering-e-01-18699374.pdf?src-supplier=Digi-Key; ComponentLink3URL: https://datasheet.ciiva.com/24221/c02e-24221150.pdf?src-supplier=Mouser; ComponentLink3Description: https://datasheet.ciiva.com/24221/c02e-24221150.pdf?src-supplier=Mouser
footprint CAPC0603X33N
pins: 1, 2

## LBMF1608T100K
designator L?, comment 10uH
Inductor Chip Wirewound 10uH 10% 2.52MHz Ferrite 80mA 468mOhm DCR 0603 T/R; Manufacturer: Taiyo Yuden; Manufacturer Part Number: LBMF1608T100K; Self Resonant Frequency: 32MHz; Shielding: Unshielded; DC Resistance (DCR): 360mR; Supplier 1: Digi-Key; RoHS: Yes; Category: Fixed Inductors; Stock 1: 5221; Pricing 1: 1=0.25000, 10=0.22300, 25=0.19800, 50=0.16840, 100=0.14850, 250=0.13612, 500=0.12376, 1000=0.10395 (USD); Mount: Surface Mount; Case/Package: 0603; Core Material: Ferrite; Case Code (Metric): 1608; Case Code (Imperial): 0603; Weight: 7.1E-05oz; Min Operating Temperature: -40°C; Max Operating Temperature: 105°C; Packaging: Tape and Reel; Inductance: 10uH; Test Frequency: 2.52MHz; Max DC Current: 80mA; Termination: SMD/SMT; Package Quantity: 3000; Current Rating: 80mA; DC Current: 80mA; Tolerance: 10%; Series: LB; Inductance Tolerance: 10%; Resistor Type: Wirewound; Length: 0.063inch; Width: 0.031inch; Height: 0.35mm; Height - Seated (Max): 0.039inch; Depth: 0.9mm; Lead Pitch: 0.7mm; Radiation Hardening: No; Lead Free: Lead Free; Military Standard: Not; REACH SVHC: Unknown; Halogen Free: Halogen Free; RoHS Compliant: Yes; ComponentLink1URL: https://datasheet.ciiva.com/8504/lbmf1608t100k-ss-8504740.pdf?src-supplier=Avnet; ComponentLink1Description: https://datasheet.ciiva.com/8504/lbmf1608t100k-ss-8504740.pdf?src-supplier=Avnet; ComponentLink2URL: https://datasheet.ciiva.com/26872/getdatasheetpartid-637440-26872437.pdf?src-supplier=Verical; ComponentLink2Description: https://datasheet.ciiva.com/26872/getdatasheetpartid-637440-26872437.pdf?src-supplier=Verical; ComponentLink3URL: https://datasheet.ciiva.com/1040/lbmf1608t100k-ss-1040360.pdf?src-supplier=Digi-Key; ComponentLink3Description: https://datasheet.ciiva.com/1040/lbmf1608t100k-ss-1040360.pdf?src-supplier=Digi-Key; ComponentLink4URL: https://datasheet.ciiva.com/15986/610lbmf1608t100k-15986589.pdf?src-supplier=Onlinecomponents.com; ComponentLink4Description: https://datasheet.ciiva.com/15986/610lbmf1608t100k-15986589.pdf?src-supplier=Onlinecomponents.com; ComponentLink5URL: https://datasheet.ciiva.com/46395/1497259-46395174.pdf?src-supplier=Element14; ComponentLink5Description: https://datasheet.ciiva.com/46395/1497259-46395174.pdf?src-supplier=Element14
footprint INDC1608X100N
pins: 1, 2

## LM20DD9
designator U?, comment STLM20DD9F
Ultra-low current 2.4 V precision analog temperature sensor; Manufacturer: STMicroelectronics; Output Type: Analog Voltage,Analog; Output Current: 10mA; Output Voltage: 1.864V; Min Supply Voltage: 2.4V; Max Supply Voltage: 5.5V; Nominal Supply Current: 8uA; Supplier 1: Digi-Key; Manufacturer Part Number: STLM20DD9F; RoHS: Yes; Category: Temperature and Humidity Sensors; Stock 1: 14696; Pricing 1: 1=0.86000, 10=0.75800, 25=0.71240, 100=0.58150, 500=0.45968, 1000=0.38308 (USD); Mount: Surface Mount; Number of Pins: 4; Min Operating Temperature: -40°C; Max Operating Temperature: 85°C; Packaging: Tape and Reel; Package Quantity: 1; Max Supply Voltage (DC): 5.5V; Min Supply Voltage (DC): 2.4V; Operating Supply Current: 8uA; Termination: SMD/SMT; Series: STLM20; Supply Current: 8uA; Length: 1.3mm; Width: 1mm; Height: 0.48mm; Radiation Hardening: No; REACH SVHC: No SVHC; Lead Free: Lead Free; RoHS Compliant: Yes; ComponentLink1URL: https://datasheet.ciiva.com/5299/cd00119601-113824-5299651.pdf?src-supplier=Mouser; ComponentLink1Description: https://datasheet.ciiva.com/5299/cd00119601-113824-5299651.pdf?src-supplier=Mouser; ComponentLink2URL: https://datasheet.ciiva.com/15098/getdatasheetpartid-130260-15098244.pdf?src-supplier=Verical; ComponentLink2Description: https://datasheet.ciiva.com/15098/getdatasheetpartid-130260-15098244.pdf?src-supplier=Verical; ComponentLink3URL: https://datasheet.ciiva.com/2847/cd00119601-2847250.pdf?src-supplier=Digi-Key; ComponentLink3Description: https://datasheet.ciiva.com/2847/cd00119601-2847250.pdf?src-supplier=Digi-Key; ComponentLink4URL: https://datasheet.ciiva.com/2847/cd00119601-2847251.pdf?src-supplier=Digi-Key; ComponentLink4Description: https://datasheet.ciiva.com/2847/cd00119601-2847251.pdf?src-supplier=Digi-Key; ComponentLink5URL: https://datasheet.ciiva.com/2847/cd00119601-2847252.pdf?src-supplier=Digi-Key; ComponentLink5Description: https://datasheet.ciiva.com/2847/cd00119601-2847252.pdf?src-supplier=Digi-Key; ComponentLink6URL: https://datasheet.ciiva.com/22623/1455553-22623973.pdf?src-supplier=Farnell; ComponentLink6Description: https://datasheet.ciiva.com/22623/1455553-22623973.pdf?src-supplier=Farnell; ComponentLink7URL: https://datasheet.ciiva.com/3279/cd00119601-3279974.pdf?src-supplier=Avnet; ComponentLink7Description: https://datasheet.ciiva.com/3279/cd00119601-3279974.pdf?src-supplier=Avnet
footprint UDFN4 (Footprint not found)
footprint QFN55P130X100X55-4N (QFN, 4-Leads, Body 1.30x1.00mm, Pitch 0.55mm, IPC Medium Density)
pins: 1 VOUT, 2 NC, 3 GND, 4 VCC

## LQG15HN15NJ02D
designator L?, comment 15nH
Inductor RF Chip Multi-Layer 15nH 5% 100MHz 8Q-Factor Air 300mA 460mOhm DCR 0402 Paper T/R; Manufacturer: Murata; Manufacturer Part Number: LQG15HN15NJ02D; DC Resistance (DCR): 460mR; Q Factor: 8; Self Resonant Frequency: 2.3GHz; Shielding: Unshielded; Supplier 1: Digi-Key; RoHS: Yes; Category: Fixed Inductors; Stock 1: 62568; Pricing 1: 1=0.10000, 10=0.05500, 25=0.04920, 50=0.04180, 100=0.03690, 250=0.03380, 500=0.03072, 1000=0.02580, 2500=0.02211 (USD); Mount: Surface Mount; Case/Package: 0402; Core Material: Air; Case Code (Metric): 1005; Case Code (Imperial): 0402; Min Operating Temperature: -55°C; Max Operating Temperature: 125°C; Inductance: 15nH; Max DC Current: 300mA; Tolerance: 5%; Termination: SMD/SMT; Test Frequency: 100MHz; DC Current: 300mA; Packaging: Tape and Reel; Inductance Tolerance: 5%; Package Quantity: 1; Current Rating: 300mA; Length: 0.039inch; Width: 0.5mm; Height: 0.5mm; Height - Seated (Max): 0.022inch; Depth: 0.55mm; Radiation Hardening: No; Military Standard: Not; REACH SVHC: No SVHC; Lead Free: Lead Free; ComponentLink1URL: https://datasheet.ciiva.com/11801/0900766b80f10808-11801397.pdf?src-supplier=RSComponents; ComponentLink1Description: https://datasheet.ciiva.com/11801/0900766b80f10808-11801397.pdf?src-supplier=RSComponents; ComponentLink2URL: https://datasheet.ciiva.com/29696/l0075s0083lqg15hn-29696703.pdf?src-supplier=Digi-Key; ComponentLink2Description: https://datasheet.ciiva.com/29696/l0075s0083lqg15hn-29696703.pdf?src-supplier=Digi-Key; ComponentLink3URL: https://datasheet.ciiva.com/17277/l0075s0083lqg15hn-17277465.pdf?src-supplier=Avnet+Europe; ComponentLink3Description: https://datasheet.ciiva.com/17277/l0075s0083lqg15hn-17277465.pdf?src-supplier=Avnet+Europe; ComponentLink4URL: https://datasheet.ciiva.com/8002/66026-8002488.pdf?src-supplier=Element14; ComponentLink4Description: https://datasheet.ciiva.com/8002/66026-8002488.pdf?src-supplier=Element14; ComponentLink5URL: https://datasheet.ciiva.com/1063/l0075s0083lqg15hn-1063850.pdf?src-supplier=Digi-Key; ComponentLink5Description: https://datasheet.ciiva.com/1063/l0075s0083lqg15hn-1063850.pdf?src-supplier=Digi-Key; ComponentLink6URL: https://datasheet.ciiva.com/29696/l0075s0083lqg15hn-29696702.pdf?src-supplier=Digi-Key; ComponentLink6Description: https://datasheet.ciiva.com/29696/l0075s0083lqg15hn-29696702.pdf?src-supplier=Digi-Key
footprint LQG15WH0N7B02D
pins: 1, 2

## LQP03TN3N9B02D
designator L?, comment 3.9nH
Inductor RF Chip Thin Film 3.9nH 0.1nH 500MHz 14Q-Factor 400mA 300mOhm DCR 0201 Paper T/R; Manufacturer: Murata; Manufacturer Part Number: LQP03TN3N9B02D; Core Material: Non-Magnetic; DC Resistance (DCR): 300mR; Shielding: Unshielded; Tolerance: 3%; Self Resonant Frequency: 5.7GHz; Current: 250mA; Q Factor: 14; Supplier 1: Digi-Key; RoHS: Yes; Category: Fixed Inductors; Stock 1: 117865; Pricing 1: 1=0.10000, 10=0.04700, 25=0.04240, 50=0.03780, 100=0.03210, 250=0.02836, 500=0.02598, 1000=0.02221, 2500=0.01984 (USD); Mount: Surface Mount; Case/Package: 0201; Case Code (Imperial): 0201; Case Code (Metric): 0603; Min Operating Temperature: -55°C; Max Operating Temperature: 125°C; Inductance: 3.9nH; Max DC Current: 400mA; Package Quantity: 15000; Current Rating: 400mA; Packaging: Tape and Reel; Test Frequency: 500MHz; Resistor Type: Thin Film; Termination: SMD/SMT; DC Current: 400mA; Length: 0.6mm; Width: 0.012inch; Height: 0.3mm; Height - Seated (Max): 0.013inch; Depth: 0.33mm; Radiation Hardening: No; Lead Free: Lead Free; Military Standard: Not; REACH SVHC: No SVHC; ComponentLink1URL: https://datasheet.ciiva.com/16444/l0075s0084lqp03tn-02-16444482.pdf?src-supplier=Future+Electronics; ComponentLink1Description: https://datasheet.ciiva.com/16444/l0075s0084lqp03tn-02-16444482.pdf?src-supplier=Future+Electronics
footprint INDC0603X33N
pins: 1, 2

## LQP03TN4N7H02D
designator L?, comment 4.7nH
Inductor RF Chip Thin Film 4.7nH 3% 500MHz 14Q-Factor 350mA 400mOhm DCR 0201 Paper T/R; Manufacturer: Murata; Manufacturer Part Number: LQP03TN4N7H02D; MF: {'manufacturer': u'Murata'}; Core Material: Non-Magnetic; DC Resistance (DCR): 400mR; Self Resonant Frequency: 4.4GHz; Shielding: Unshielded; Q Factor: 14; Availability: Unavailable; Price: None; Package: None; Value: *; Supplier 1: Digi-Key; RoHS: Yes; Category: Fixed Inductors; Stock 1: 240787; Pricing 1: 1=0.10000, 10=0.04700, 25=0.04240, 50=0.03780, 100=0.03210, 250=0.02836, 500=0.02598, 1000=0.02221, 2500=0.01984 (USD); Mount: Surface Mount; Case/Package: 0201; Case Code (Metric): 0603; Case Code (Imperial): 0201; Min Operating Temperature: -55°C; Max Operating Temperature: 125°C; Tolerance: 3%; Inductance: 4.7nH; Max DC Current: 350mA; Packaging: Tape and Reel; Package Quantity: 15000; Current Rating: 350mA; Termination: SMD/SMT; Resistor Type: Thin Film; Test Frequency: 500MHz; DC Current: 350mA; Series: LQP03TN_02; Technology: THIN FILM; Length: 0.024inch; Width: 0.3mm; Height: 0.3mm; Height - Seated (Max): 0.013inch; Depth: 0.33mm; Radiation Hardening: No; Military Standard: Not; Lead Free: Lead Free; RoHS Compliant: Yes; ComponentLink1URL: https://datasheet.ciiva.com/4982/s0084e-125392-4982064.pdf?src-supplier=Mouser; ComponentLink1Description: https://datasheet.ciiva.com/4982/s0084e-125392-4982064.pdf?src-supplier=Mouser; ComponentLink2URL: https://datasheet.ciiva.com/3865/lqp03tn4n7h0223-3865631.pdf?src-supplier=Arrow+Electronics; ComponentLink2Description: https://datasheet.ciiva.com/3865/lqp03tn4n7h0223-3865631.pdf?src-supplier=Arrow+Electronics; ComponentLink3URL: https://datasheet.ciiva.com/29698/s0084e-29698453.pdf?src-supplier=Digi-Key; ComponentLink3Description: https://datasheet.ciiva.com/29698/s0084e-29698453.pdf?src-supplier=Digi-Key; ComponentLink4URL: https://datasheet.ciiva.com/29698/s0084e-29698454.pdf?src-supplier=Digi-Key; ComponentLink4Description: https://datasheet.ciiva.com/29698/s0084e-29698454.pdf?src-supplier=Digi-Key
footprint INDC0603X33N
pins: 1, 2

## LTC4126EV#TRMPBF
designator IC?
Linear Battery Charger Li-Ion 7.5mA 4.2V/4.35V 12-Pin LQFN EP T/R; Manufacturer: Analog Devices / Linear Technology; Manufacturer Part Number: LTC4126EV#TRPBF; Supplier 1: Digi-Key; RoHS: Yes; Category: Battery Management; Pricing 1: 1=6.48000, 10=5.85700, 25=5.58480, 100=4.84910, 250=4.63112, 500=4.24050 (USD); RoHS Compliant: No
footprint QFN50P200X200X83-13N-D
pins: 1 NTC, 2 EN, 3 ~{PBEN}, 4 VSEL, 5 ACPR, 6 ~{CHRG}, 7 ACIN, 8 BAT, 9 STAT2, 10 STAT1, 11 VCC, 12 OUT, 13 GND